# Altium footprint library TLV9051IDCKR.PcbLib: 3 footprints
Each footprint in its own frame and in the unit in brackets; x right, y up, seen from the top. Pads: shape width x height; smd on the part's side, far side on the other; paste and mask are expansions set on the pad; w line width, h text height; cw(c..) or ccw(c..) is an arc to the next point about the centre after c.
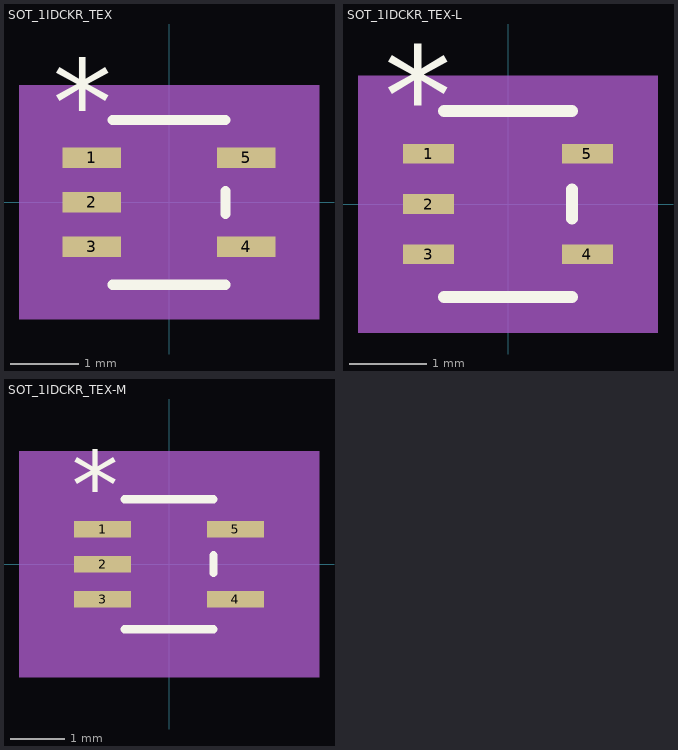
[diagram p0: the footprints below, top view; thin cyan lines are the x and y axes]

## SOT_1IDCKR_TEX [mil]
pads (5):
  rect 33.74x12 smd paste+0 mask+0: 1(-44.37,25.59) 2(-44.37,0) 3(-44.37,-25.59) 4(44.37,-25.59) 5(44.37,25.59)
Top Overlay:
  lines w6: -32.5,-47.32 32.5,-47.32 ; -32.5,47.32 32.5,47.32 ; 32.5,-6.49 32.5,6.49
  text "*" at -66.87,32.59 h50
Mechanical 5:
  region: 86.24,-67.32 -86.24,-67.32 -86.24,67.32 86.24,67.32
Mechanical 13:
  lines w0: -12,42.32 ccw(c0,42.32) 12,42.32
  lines w1: -47.24,-31.59 -47.24,-19.59 -27.5,-19.59 -27.5,-31.59 -47.24,-31.59 ; -47.24,-6 -47.24,6 -27.5,6 -27.5,-6 -47.24,-6 ; -47.24,19.59 -47.24,31.59 -27.5,31.59 -27.5,19.59 -47.24,19.59 ; -27.5,-42.32 27.5,-42.32 27.5,42.32 -27.5,42.32 -27.5,-42.32 ; 27.5,-31.59 27.5,-19.59 47.24,-19.59 47.24,-31.59 27.5,-31.59 ; 27.5,19.59 27.5,31.59 47.24,31.59 47.24,19.59 27.5,19.59
  text "*" at -30,-10.41 h50
Mechanical 15:
  region: 37.5,-52.32 -37.5,-52.32 -37.5,-37.59 -63.24,-37.59 -63.24,37.59 -37.5,37.59 -37.5,52.32 37.5,52.32 37.5,37.59 63.24,37.59 63.24,-37.59 37.5,-37.59
  lines w6: -63.24,-37.59 -37.5,-37.59 -37.5,-52.32 37.5,-52.32 37.5,-37.59 63.24,-37.59 63.24,37.59 37.5,37.59 37.5,52.32 -37.5,52.32 -37.5,37.59 -63.24,37.59 -63.24,-37.59
3D body "SOT_1IDCKR_TEX.step": height 43.11, standoff 0, extent -47.24,-42.32 47.24,42.32

## SOT_1IDCKR_TEX-L [mil]
pads (5):
  rect 25.74x10 smd paste+0 mask+0: 1(-40.37,25.59) 2(-40.37,0) 3(-40.37,-25.59) 4(40.37,-25.59) 5(40.37,25.59)
Top Overlay:
  lines w6: -32.5,-47.32 32.5,-47.32 ; -32.5,47.32 32.5,47.32 ; 32.5,-7.49 32.5,7.49
  text "*" at -62.87,30.59 h50
Mechanical 5:
  region: 76.24,-65.32 -76.24,-65.32 -76.24,65.32 76.24,65.32
Mechanical 13:
  lines w0: -12,42.32 ccw(c0,42.32) 12,42.32
  lines w1: -47.24,-31.59 -47.24,-19.59 -27.5,-19.59 -27.5,-31.59 -47.24,-31.59 ; -47.24,-6 -47.24,6 -27.5,6 -27.5,-6 -47.24,-6 ; -47.24,19.59 -47.24,31.59 -27.5,31.59 -27.5,19.59 -47.24,19.59 ; -27.5,-42.32 27.5,-42.32 27.5,42.32 -27.5,42.32 -27.5,-42.32 ; 27.5,-31.59 27.5,-19.59 47.24,-19.59 47.24,-31.59 27.5,-31.59 ; 27.5,19.59 27.5,31.59 47.24,31.59 47.24,19.59 27.5,19.59
  text "*" at -30,-12.41 h50
Mechanical 15:
  region: 35.5,-50.32 -35.5,-50.32 -35.5,-35.59 -60.24,-35.59 -60.24,35.59 -35.5,35.59 -35.5,50.32 35.5,50.32 35.5,35.59 60.24,35.59 60.24,-35.59 35.5,-35.59
  lines w6: -60.24,-35.59 -35.5,-35.59 -35.5,-50.32 35.5,-50.32 35.5,-35.59 60.24,-35.59 60.24,35.59 35.5,35.59 35.5,50.32 -35.5,50.32 -35.5,35.59 -60.24,35.59 -60.24,-35.59
3D body "SOT_1IDCKR_TEX.step": height 43.11, standoff 0, extent -47.24,-42.32 47.24,42.32

## SOT_1IDCKR_TEX-M [mil]
pads (5):
  rect 41.74x12 smd paste+0 mask+0: 1(-48.37,25.59) 2(-48.37,0) 3(-48.37,-25.59) 4(48.37,-25.59) 5(48.37,25.59)
Top Overlay:
  lines w6: -32.5,-47.32 32.5,-47.32 ; -32.5,47.32 32.5,47.32 ; 32.5,-6.49 32.5,6.49
  text "*" at -70.87,32.59 h50
Mechanical 5:
  region: 109.24,-82.32 -109.24,-82.32 -109.24,82.32 109.24,82.32
Mechanical 13:
  lines w0: -12,42.32 ccw(c0,42.32) 12,42.32
  lines w1: -47.24,-31.59 -47.24,-19.59 -27.5,-19.59 -27.5,-31.59 -47.24,-31.59 ; -47.24,-6 -47.24,6 -27.5,6 -27.5,-6 -47.24,-6 ; -47.24,19.59 -47.24,31.59 -27.5,31.59 -27.5,19.59 -47.24,19.59 ; -27.5,-42.32 27.5,-42.32 27.5,42.32 -27.5,42.32 -27.5,-42.32 ; 27.5,-31.59 27.5,-19.59 47.24,-19.59 47.24,-31.59 27.5,-31.59 ; 27.5,19.59 27.5,31.59 47.24,31.59 47.24,19.59 27.5,19.59
  text "*" at -30,-10.41 h50
Mechanical 15:
  region: 52.5,-67.32 -52.5,-67.32 -52.5,-37.59 -78.24,-37.59 -78.24,37.59 -52.5,37.59 -52.5,67.32 52.5,67.32 52.5,37.59 78.24,37.59 78.24,-37.59 52.5,-37.59
  lines w6: -78.24,-37.59 -52.5,-37.59 -52.5,-67.32 52.5,-67.32 52.5,-37.59 78.24,-37.59 78.24,37.59 52.5,37.59 52.5,67.32 -52.5,67.32 -52.5,37.59 -78.24,37.59 -78.24,-37.59
3D body "SOT_1IDCKR_TEX.step": height 43.11, standoff 0, extent -47.24,-42.32 47.24,42.32